# EAGLE library part ADUC84*-56 (library analog-devices_custom)
MicroConverter® Multichannel 24-/16-Bit ADCs with Embedded 62 kB Flash and Single-Cycle MCU Source: http://www.analog.com/static/imported-files/data_sheets/ADUC845_847_848.pdf
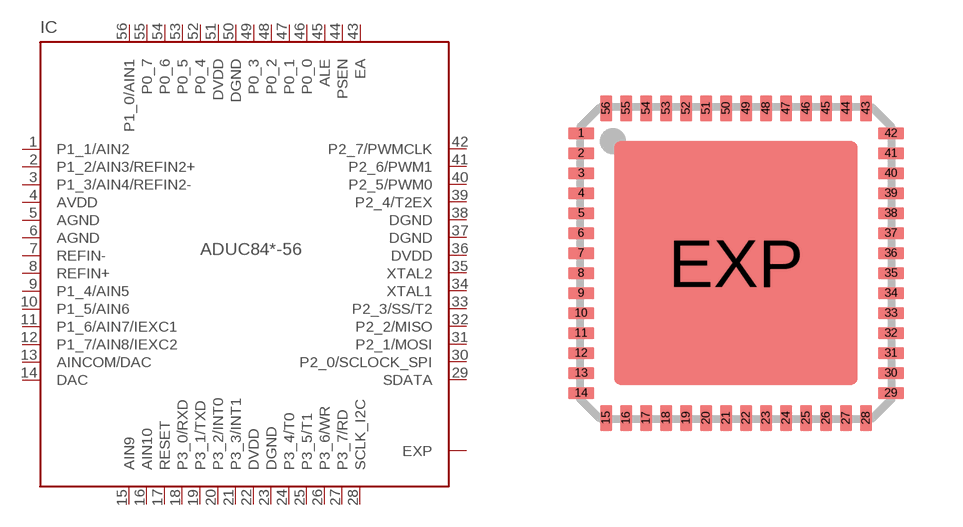
[diagram p143: symbol with the pads of LFCSP56; footprint LFCSP56]

Designator prefix IC

## ADUC845-56 (OC_FARNELL: unknown; OC_NEWARK: unknown), ADUC847-56 (OC_FARNELL: unknown; OC_NEWARK: unknown), ADUC848-56 (OC_FARNELL: unknown; OC_NEWARK: unknown)  [LFCSP56]
1  P1_1/AIN2  in
2  P1_2/AIN3/REFIN2+  in
3  P1_3/AIN4/REFIN2-  in
4  AVDD  pwr
5  AGND  pwr
6  AGND  pwr
7  REFIN-  in
8  REFIN+  in
9  P1_4/AIN5  in
10  P1_5/AIN6  in
11  P1_6/AIN7/IEXC1
12  P1_7/AIN8/IEXC2
13  AINCOM/DAC
14  DAC  out
15  AIN9  in
16  AIN10  in
17  RESET  in
18  P3_0/RXD
19  P3_1/TXD
20  P3_2/INT0
21  P3_3/INT1
22  DVDD  pwr
23  DGND  pwr
24  P3_4/T0
25  P3_5/T1
26  P3_6/WR
27  P3_7/RD
28  SCLK_I2C
29  SDATA
30  P2_0/SCLOCK_SPI
31  P2_1/MOSI
32  P2_2/MISO
33  P2_3/SS/T2
34  XTAL1  in
35  XTAL2  out
36  DVDD  pwr
37  DGND  pwr
38  DGND  pwr
39  P2_4/T2EX
40  P2_5/PWM0
41  P2_6/PWM1
42  P2_7/PWMCLK
43  EA  in
44  PSEN  out
45  ALE  out
46  P0_0
47  P0_1
48  P0_2
49  P0_3
50  DGND  pwr
51  DVDD  pwr
52  P0_4
53  P0_5
54  P0_6
55  P0_7
56  P1_0/AIN1  in
EXP  EXP  pas

## Footprint LFCSP56 (pad centres in mm)
56-Lead Frame Chip Scale Package LFCSP 8 mm × 8 mm Body, Very Thin Quad (CP-56) COMPLIANT TO JEDEC STANDARDS MO-220-VLLD-2 Source: http://www.analog.com/static/imported-files/data_sheets/ADUC845_847_848.pdf
smd 0.65 x 0.3: 1 -3.875,3.25; 2 -3.875,2.75; 3 -3.875,2.25; 4 -3.875,1.75; 5 -3.875,1.25; 6 -3.875,0.75; 7 -3.875,0.25; 8 -3.875,-0.25; 9 -3.875,-0.75; 10 -3.875,-1.25; 11 -3.875,-1.75; 12 -3.875,-2.25; 13 -3.875,-2.75; 14 -3.875,-3.25; 29 3.875,-3.25; 30 3.875,-2.75; 31 3.875,-2.25; 32 3.875,-1.75; 33 3.875,-1.25; 34 3.875,-0.75; 35 3.875,-0.25; 36 3.875,0.25; 37 3.875,0.75; 38 3.875,1.25; 39 3.875,1.75; 40 3.875,2.25; 41 3.875,2.75; 42 3.875,3.25
smd 0.3 x 0.65: 15 -3.25,-3.875; 16 -2.75,-3.875; 17 -2.25,-3.875; 18 -1.75,-3.875; 19 -1.25,-3.875; 20 -0.75,-3.875; 21 -0.25,-3.875; 22 0.25,-3.875; 23 0.75,-3.875; 24 1.25,-3.875; 25 1.75,-3.875; 26 2.25,-3.875; 27 2.75,-3.875; 28 3.25,-3.875; 43 3.25,3.875; 44 2.75,3.875; 45 2.25,3.875; 46 1.75,3.875; 47 1.25,3.875; 48 0.75,3.875; 49 0.25,3.875; 50 -0.25,3.875; 51 -0.75,3.875; 52 -1.25,3.875; 53 -1.75,3.875; 54 -2.25,3.875; 55 -2.75,3.875; 56 -3.25,3.875
smd 6.1 x 6.1: EXP 0,0